# EAGLE library part PIN_HEADER_HALF_6 (library 08_CONECTOR)
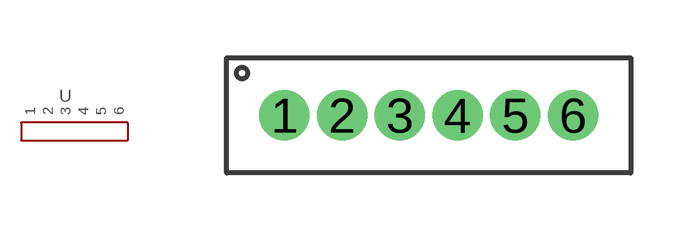
[diagram p4: symbol with the pads of PIN_HEADER_HALF_6; footprint PIN_HEADER_HALF_6]

Designator prefix -

## PIN_HEADER_HALF_6  [PIN_HEADER_HALF_6]
1  1
2  2
3  3
4  4
5  5
6  6

## Footprint PIN_HEADER_HALF_6 (pad centres in mm)
drill 0.8 pad 1.2: 1 -3,0; 2 -1.5,0; 3 0,0; 4 1.5,0; 5 3,0; 6 4.5,0